# Altium schematic symbol library BAT54.SchLib: 1 symbol
Pins are listed as number, name and electrical type; pins without a type are passive.

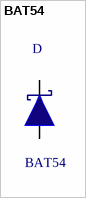
[diagram p0: symbol BAT54]

## BAT54
designator D  value BAT54  (hidden comment: *)
Manufacturer: ON SEMICONDUCTOR; Manufacturer Code: BAT54HT1G; Current: 600mA; Forward Voltage Drop (10mA): 200mV; Farnell Code: 1459033; Unit Price: 0,169 €; MOQ: 5
footprint SOD-323 (Footprint not found)
pins: 1, 2